# EAGLE library part ACS714 (library pie)
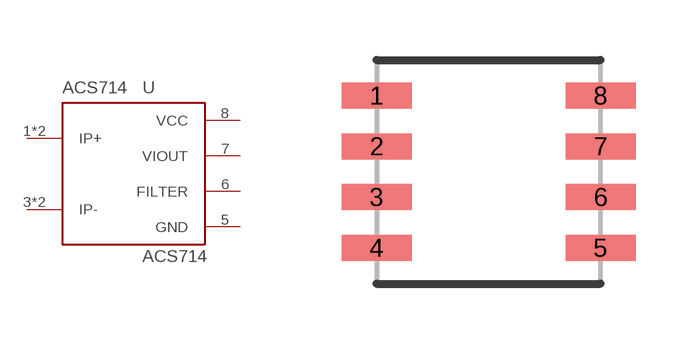
[diagram p2: symbol with the pads of 8-PIN_SOIC; footprint 8-PIN_SOIC]

Designator prefix -

## ACS714 (PIE-DIGIKEY-PN-PRI: 620-1260-1-ND; PIE-INT-REF-NUM: ACS714)  [8-PIN_SOIC]
1  IP+
2  IP+
3  IP-
4  IP-
5  GND
6  FILTER
7  VIOUT
8  VCC

## Footprint 8-PIN_SOIC (pad centres in mm)
Generic SOIC package Drawings <http://glacier.lbl.gov/gtp/DOM/dataSheets/soic8_dim.pdf>
smd 1.75 x 0.65: 1 -2.8,1.905; 2 -2.8,0.635; 3 -2.8,-0.635; 4 -2.8,-1.905; 5 2.8,-1.905; 6 2.8,-0.635; 7 2.8,0.635; 8 2.8,1.905